# EAGLE library part LM5008 (library My Library)
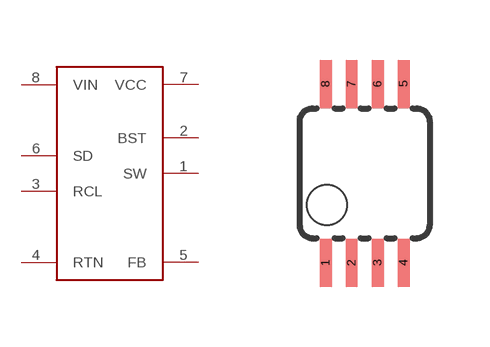
[diagram p30: symbol with the pads of MSOP08; footprint MSOP08]

Designator prefix -

## LM5008MSOP8  [MSOP08]
1  SW
2  BST
3  RCL
4  RTN
5  FB
6  SD
7  VCC
8  VIN

## Footprint MSOP08 (pad centres in mm)
Mini Small Outline Package
smd 0.3 x 1.2: 1 -0.976,-2.24; 2 -0.326,-2.24; 3 0.324,-2.24; 4 0.974,-2.24; 5 0.974,2.239; 6 0.324,2.239; 7 -0.326,2.239; 8 -0.976,2.239